# Altium footprint library LED_0805.PcbLib: 1 footprints
Each footprint in its own frame and in the unit in brackets; x right, y up, seen from the top. Pads: shape width x height; smd on the part's side, far side on the other; paste and mask are expansions set on the pad; w line width, h text height; cw(c..) or ccw(c..) is an arc to the next point about the centre after c.
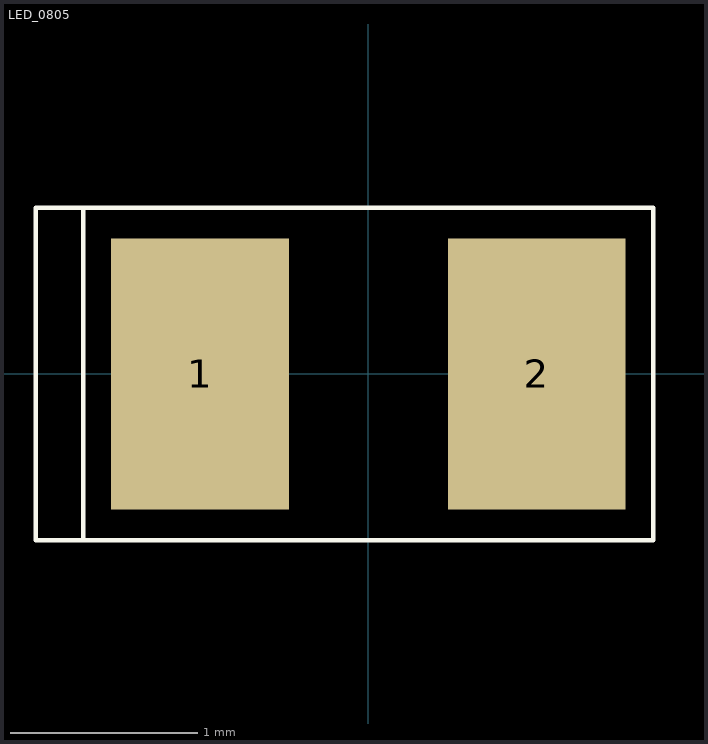
[diagram p0: the footprint, top view; thin cyan lines are the x and y axes]

## LED_0805 [mm]
pads (2):
  rect 0.95x1.45 smd: 1(-0.9,0) 2(0.9,0)
Top Overlay:
  lines w0.025: -1.524,-0.889 -1.524,0.889 ; -1.524,-0.889 -1.778,-0.889 -1.778,0.889 -1.524,0.889 ; -1.524,-0.889 -1.524,0.889 ; -1.524,-0.889 1.524,-0.889 1.524,0.889 -1.524,0.889
3D body "LED 0603 APT1608 GREEN.STEP": height 0.75, standoff 0, extent -0.8,-0.4 0.8,0.4